# EAGLE library part ISL83491 (library pie)
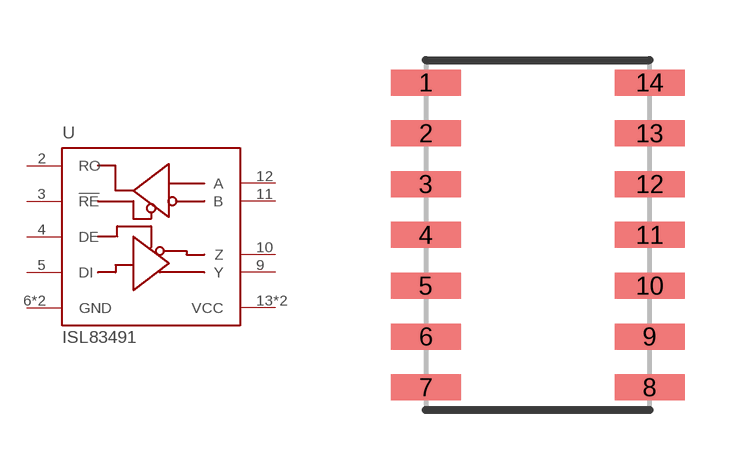
[diagram p18: symbol with the pads of SOIC14; footprint SOIC14]

Designator prefix U

## ISL83491SOIC (PIE-INT-REF-NUM: rs485_491)  [SOIC14]
2  RO
3  !RE
4  DE
5  DI
6  GND
7  GND
9  Y
10  Z
11  B
12  A
13  VCC
14  VCC

## Footprint SOIC14 (pad centres in mm)
smd 1.75 x 0.65: 1 -2.8,3.81; 2 -2.8,2.54; 3 -2.8,1.27; 4 -2.8,0; 5 -2.8,-1.27; 6 -2.8,-2.54; 7 -2.8,-3.81; 8 2.8,-3.81; 9 2.8,-2.54; 10 2.8,-1.27; 11 2.8,0; 12 2.8,1.27; 13 2.8,2.54; 14 2.8,3.81